# Altium schematic symbol library ProgrammerHeader.SchLib: 1 symbol
Pins are listed as number, name and electrical type; pins without a type are passive.

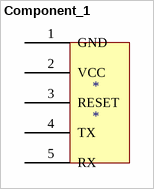
[diagram p0: symbol Component_1]

## Component_1
designator *
footprint PrgHeader (5 pin programmer header for RFD22301)
pins: 1 GND, 2 VCC, 3 RESET, 4 TX, 5 RX